# EAGLE library part 1PEEK07_S (library con-odu_med)
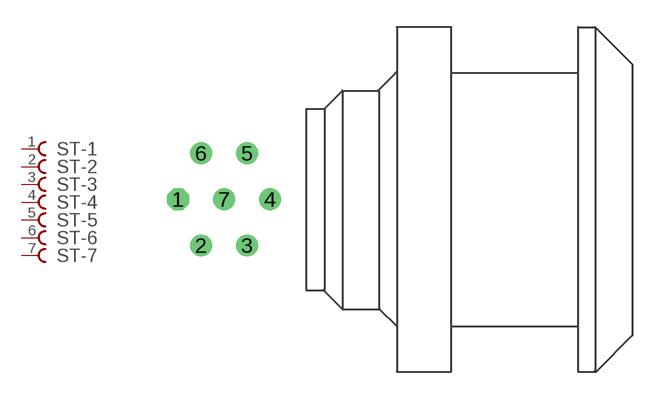
[diagram p10: symbol with the pads of 1PEEK07_S; footprint 1PEEK07_S]

Designator prefix ST; gates -1=KONTAKT -2=KONTAKT -3=KONTAKT -4=KONTAKT -5=KONTAKT -6=KONTAKT -7=KONTAKT

## 1PEEK07_S  [1PEEK07_S]
1  -1:P$1  pas
2  -2:P$1  pas
3  -3:P$1  pas
4  -4:P$1  pas
5  -5:P$1  pas
6  -6:P$1  pas
7  -7:P$1  pas

## Footprint 1PEEK07_S (pad centres in mm)
drill 0.7 octagon: 1 -5.08,0
drill 0.7: 2 -3.81,-2.54; 3 -1.27,-2.54; 4 0,0; 5 -1.27,2.54; 6 -3.81,2.54; 7 -2.54,0